# EAGLE library part ATECCX08A (library ateccx08a)
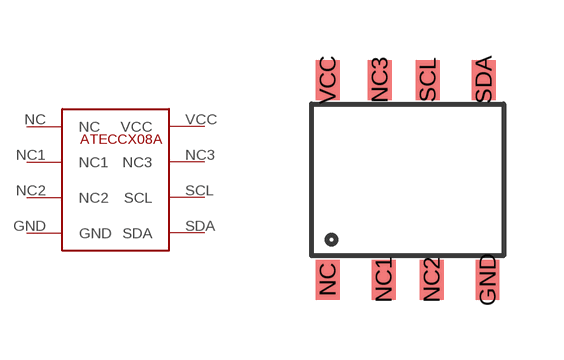
[diagram p0: symbol with the pads of SOIC; footprint SOIC]

Designator prefix -

## ATECCX08A  [SOIC]
GND  GND
NC  NC
NC1  NC1
NC2  NC2
NC3  NC3
SCL  SCL
SDA  SDA
VCC  VCC

## Footprint SOIC (pad centres in mm)
smd 0.6 x 1: GND 2,-2.5; NC -2,-2.5; NC1 -0.6,-2.5; NC2 0.6,-2.5; NC3 -0.7,2.5; SCL 0.5,2.5; SDA 1.9,2.5; VCC -2,2.5